# Altium footprint library opto.PcbLib: 1 footprints
Each footprint in its own frame and in the unit in brackets; x right, y up, seen from the top. Pads: shape width x height; smd on the part's side, far side on the other; paste and mask are expansions set on the pad; w line width, h text height; cw(c..) or ccw(c..) is an arc to the next point about the centre after c.
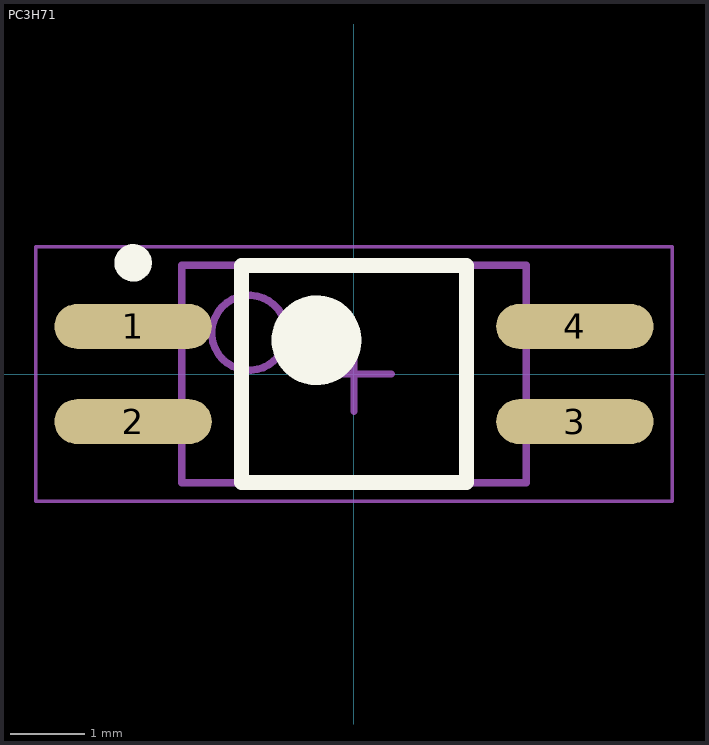
[diagram p0: the footprint, top view; thin cyan lines are the x and y axes]

## PC3H71 [mm] "SOIC, 4-Leads, Body 2.60x4.40mm, Pitch 1.27mm, IPC Medium Density"
height 2.2
pads (4):
  oval 2.1x0.6 smd: 1(-2.95,0.635) 2(-2.95,-0.635) 3(2.95,-0.635) 4(2.95,0.635)
Top Overlay:
  circle w0.25: c-2.95,1.485 r0.125
  circle w0.6: c-0.5,0.45 r0.3
  lines w0.2: -1.5,-1.45 -1.5,1.45 1.5,1.45 1.5,-1.45 -1.5,-1.45
Mechanical 13:
  circle w0.1: c-1.4,0.55 r0.5
  lines w0.1: -2.3,-1.45 -2.3,1.45 2.3,1.45 2.3,-1.45 -2.3,-1.45
Mechanical 15:
  lines w0.05: -4.25,-1.7 -4.25,1.7 4.25,1.7 4.25,-1.7 -4.25,-1.7
  lines w0.1: -0.5,0 0.5,0 ; 0,-0.5 0,0.5
3D body: height 2.2, standoff 0.1, extent -2.3,-1.45 2.3,1.45